# Altium footprint library TC1-1-13M.PcbLib: 1 footprints
Each footprint in its own frame and in the unit in brackets; x right, y up, seen from the top. Pads: shape width x height; smd on the part's side, far side on the other; paste and mask are expansions set on the pad; w line width, h text height; cw(c..) or ccw(c..) is an arc to the next point about the centre after c.
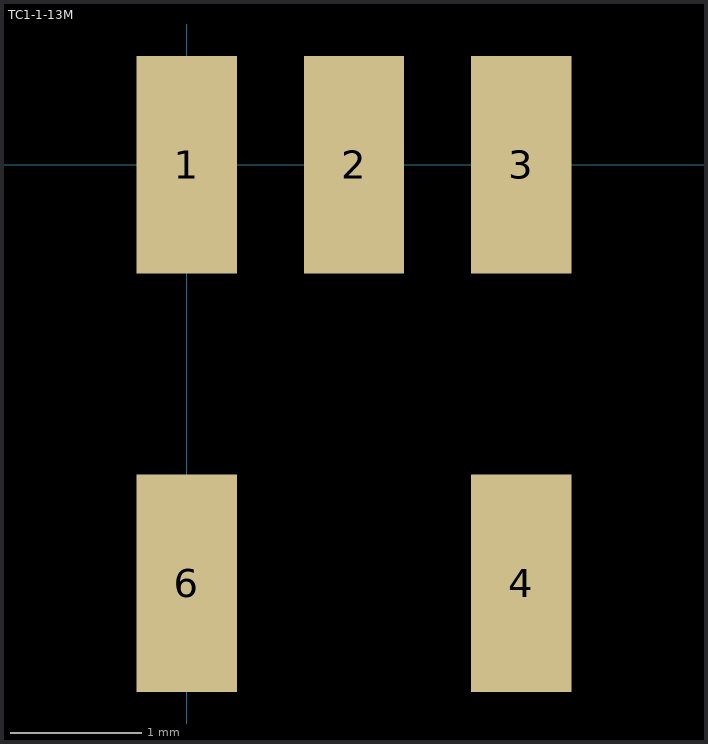
[diagram p0: the footprint, top view; thin cyan lines are the x and y axes]

## TC1-1-13M [mil] "RF balun"
pads (5):
  rect 30x65 smd: 1(0,0) 2(50,0) 3(100,0) 4(100,-125) 6(0,-125)